# Altium schematic symbol library led_0805.SchLib: 1 symbol
Pins are listed as number, name and electrical type; pins without a type are passive.

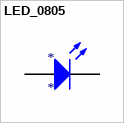
[diagram p0: symbol LED_0805]

## LED_0805
designator *
footprint 0805
pins: 1 K, 2 A